# EAGLE library part CON-10P (library degson)
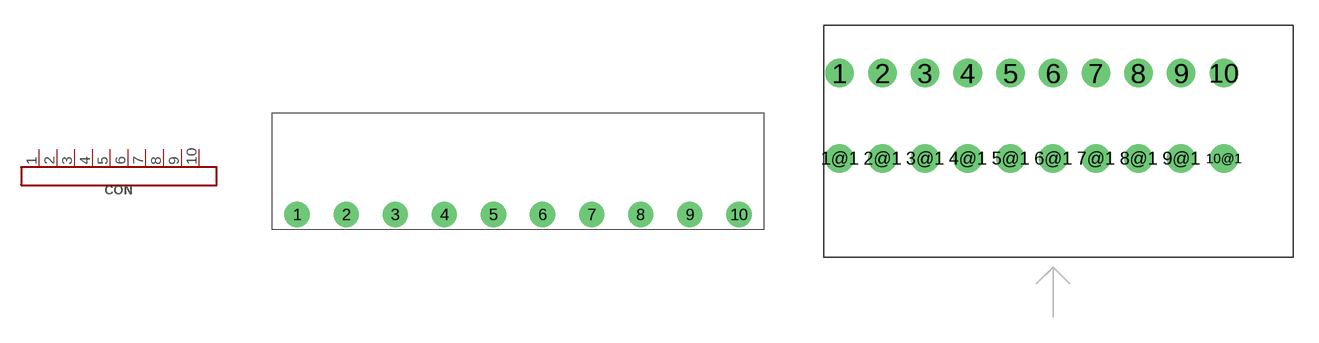
[diagram p2: symbol with the pads of 2EDGR-5.08-10P; footprints 2EDGR-5.08-10P, DG141R-2.54-10P]

Designator prefix CON

## CON-10P-2EDGR-5.08 (MANF: Degson Electronics; MANF#: 2EDGR-5.08-05P-14-00A(H); TYPE: 2EDGR-5.08)  [2EDGR-5.08-10P]
1  1
2  2
3  3
4  4
5  5
6  6
7  7
8  8
9  9
10  10

## CON-10P-DG141R-2.54 (MANF: Degson Electronics; MANF#: DG141R-2.54-10P; TYPE: DG141R-2.54)  [DG141R-2.54-10P]
1  1
1@1  1
2  2
2@1  2
3  3
3@1  3
4  4
4@1  4
5  5
5@1  5
6  6
6@1  6
7  7
7@1  7
8  8
8@1  8
9  9
9@1  9
10  10
10@1  10

## CON-10P-DG237-5.08 (MANF: Degson Electronics; MANF#: DG237-5.08-10P-14-00A; TYPE: DG237-5.08)  [DG237-5.08-10P-14-00]
Pads as for DG141R-2.54-10P

## CON-10P-DG141V-2.54 (MANF: Degson Electronics; MANF#: DG141R-2.54-10P; TYPE: DG141V-2.54)  [DG141V-2.54-10P]
Pads as for DG141R-2.54-10P

## Footprint 2EDGR-5.08-10P (pad centres in mm)
drill 1.6 pad 2.6: 1 -22.86,0; 2 -17.78,0; 3 -12.7,0; 4 -7.62,0; 5 -2.54,0; 6 2.54,0; 7 7.62,0; 8 12.7,0; 9 17.78,0; 10 22.86,0

## Footprint DG141R-2.54-10P (pad centres in mm)
Datasheet <DG141R-2.54>
drill 1 pad 1.7: 1 -12.7,2.54; 1@1 -12.7,-2.54; 2 -10.16,2.54; 2@1 -10.16,-2.54; 3 -7.62,2.54; 3@1 -7.62,-2.54; 4 -5.08,2.54; 4@1 -5.08,-2.54; 5 -2.54,2.54; 5@1 -2.54,-2.54; 6 0,2.54; 6@1 0,-2.54; 7 2.54,2.54; 7@1 2.54,-2.54; 8 5.08,2.54; 8@1 5.08,-2.54; 9 7.62,2.54; 9@1 7.62,-2.54; 10 10.16,2.54; 10@1 10.16,-2.54

## Footprint DG237-5.08-10P-14-00 (pad centres in mm)
Datasheet <http://files.xn--e1agecchai.xn--p1ai/pdf/dg237-5.08.pdf>
drill 1.3 pad 1.8: 1 -22.86,5.08; 1@1 -22.86,-5.08; 2 -17.78,5.08; 2@1 -17.78,-5.08; 3 -12.7,5.08; 3@1 -12.7,-5.08; 4 -7.62,5.08; 4@1 -7.62,-5.08; 5 -2.54,5.08; 5@1 -2.54,-5.08; 6 2.54,5.08; 6@1 2.54,-5.08; 7 7.62,5.08; 7@1 7.62,-5.08; 8 12.7,5.08; 8@1 12.7,-5.08; 9 17.78,5.08; 9@1 17.78,-5.08; 10 22.86,5.08; 10@1 22.86,-5.08

## Footprint DG141V-2.54-10P (pad centres in mm)
Datasheet <DG141R-2.54>
drill 1 pad 1.7: 1 -11.43,2.54; 1@1 -11.43,-2.54; 2 -8.89,2.54; 2@1 -8.89,-2.54; 3 -6.35,2.54; 3@1 -6.35,-2.54; 4 -3.81,2.54; 4@1 -3.81,-2.54; 5 -1.27,2.54; 5@1 -1.27,-2.54; 6 1.27,2.54; 6@1 1.27,-2.54; 7 3.81,2.54; 7@1 3.81,-2.54; 8 6.35,2.54; 8@1 6.35,-2.54; 9 8.89,2.54; 9@1 8.89,-2.54; 10 11.43,2.54; 10@1 11.43,-2.54